# EAGLE library part KITT.DB01 (library kitt.con)
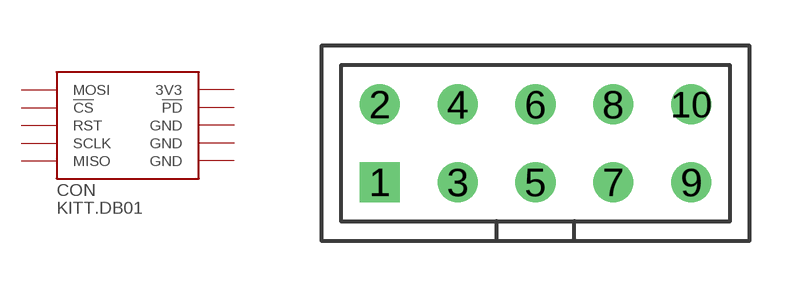
[diagram p1: symbol with the pads of KITT_DB01; footprint KITT_DB01]

Designator prefix CON

## KITT.DB01  [KITT_DB01]
1  MOSI
2  3V3
3  !CS
4  !PD
5  RST
6  GND
7  SCLK
8  GND
9  MISO
10  GND

## Footprint KITT_DB01 (pad centres in mm)
drill 0.8 square: 1 -5.08,-1.27
drill 0.8: 2 -5.08,1.27; 3 -2.54,-1.27; 4 -2.54,1.27; 5 0,-1.27; 6 0,1.27; 7 2.54,-1.27; 8 2.54,1.27; 9 5.08,-1.27; 10 5.08,1.27